# Altium schematic symbol library PCB Modules.SchLib: 5 symbols
Pins are listed as number, name and electrical type; pins without a type are passive.

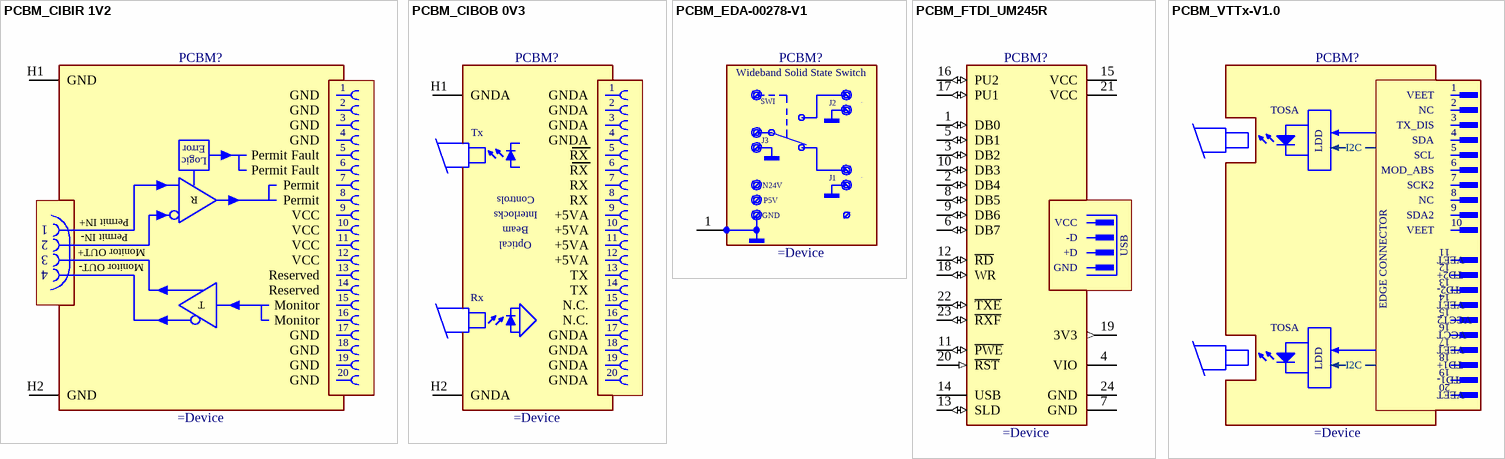
[diagram p0: symbols PCBM_CIBIR 1V2 to PCBM_VTTx-V1.0]

## PCBM_CIBIR 1V2
designator PCBM?
Controls Interlocks Beam Interface Receiver (CIBIR) 1V2 Printed Circuit Board Module
pins: H1 GND (power), H2 GND (power)
text: 1; 2; 3; 4; Error; 5; Permit Fault; Logic; 6; 7; Permit; 8; R; 9; VCC; Permit IN+; 10; Permit IN-; 11; Monitor OUT+; 12; Monitor OUT-; 13; Reserved; 14; 15; T; Monitor; 16; 17; 18; 19; 20

## PCBM_CIBOB 0V3
designator PCBM?
Controls Interlocks Beam Optical B (CIBOB) 0V3 Printed Circuit Boar Module
pins: H1 GNDA (power), H2 GNDA (power)
text: 1; 2; 3; Tx; 4; 5; RX; 6; 7; 8; Controls; 9; Interlocks; +5VA; 10; Beam; 11; Optical; 12; 13; TX; 14; Rx; 15; N.C.; 16; 17; 18; 19; 20

## PCBM_EDA-00278-V1
designator PCBM?
"Wideband Solid State Switch" Printed Circuit Board Module
pins: 1 (power)
text: Wideband Solid State Switch; SWI; J2; J3; J1; N24V; P5V; GND

## PCBM_FTDI_UM245R
designator PCBM?
Parallel FIFO Development Module
pins: 1 DB0 (io), 2 DB4 (io), 3 DB2 (io), 4 VIO (power), 5 DB1 (io), 6 DB7 (io), 7 GND (power), 8 DB5 (io), 9 DB6 (io), 10 DB3 (io), 11 ~{PWE} (io), 12 ~{RD} (io), 13 SLD (io), 14 USB (power), 15 VCC (power), 16 PU2 (io), 17 PU1 (io), 18 WR (io), 19 3V3 (out), 20 ~{RST} (in), 21 VCC (power), 22 ~{TXE} (io), 23 ~{RXF} (io), 24 GND (power)
text: -D; +D

## PCBM_VTTx-V1.0
designator PCBM?
Versatile Twin Transmitter Module
text: 1; VEET; 2; TOSA; NC; 3; LDD; TX_DIS; 4; SDA; I2C; 5; SCL; 6; MOD_ABS; 7; SCK2; 8; EDGE CONNECTOR; 9; SDA2; 10; 11; 12; TD2+; 13; TD2-; 14; 15; VCCT2; 16; VCCT; 17; 18; TD1+; 19; TD1-; 20